# Altium footprint library Andy_Parts.PcbLib: 121 footprints (part 5 of 8)
Each footprint in its own frame and in the unit in brackets; x right, y up, seen from the top. Pads: shape width x height; smd on the part's side, far side on the other; paste and mask are expansions set on the pad; w line width, h text height; cw(c..) or ccw(c..) is an arc to the next point about the centre after c.
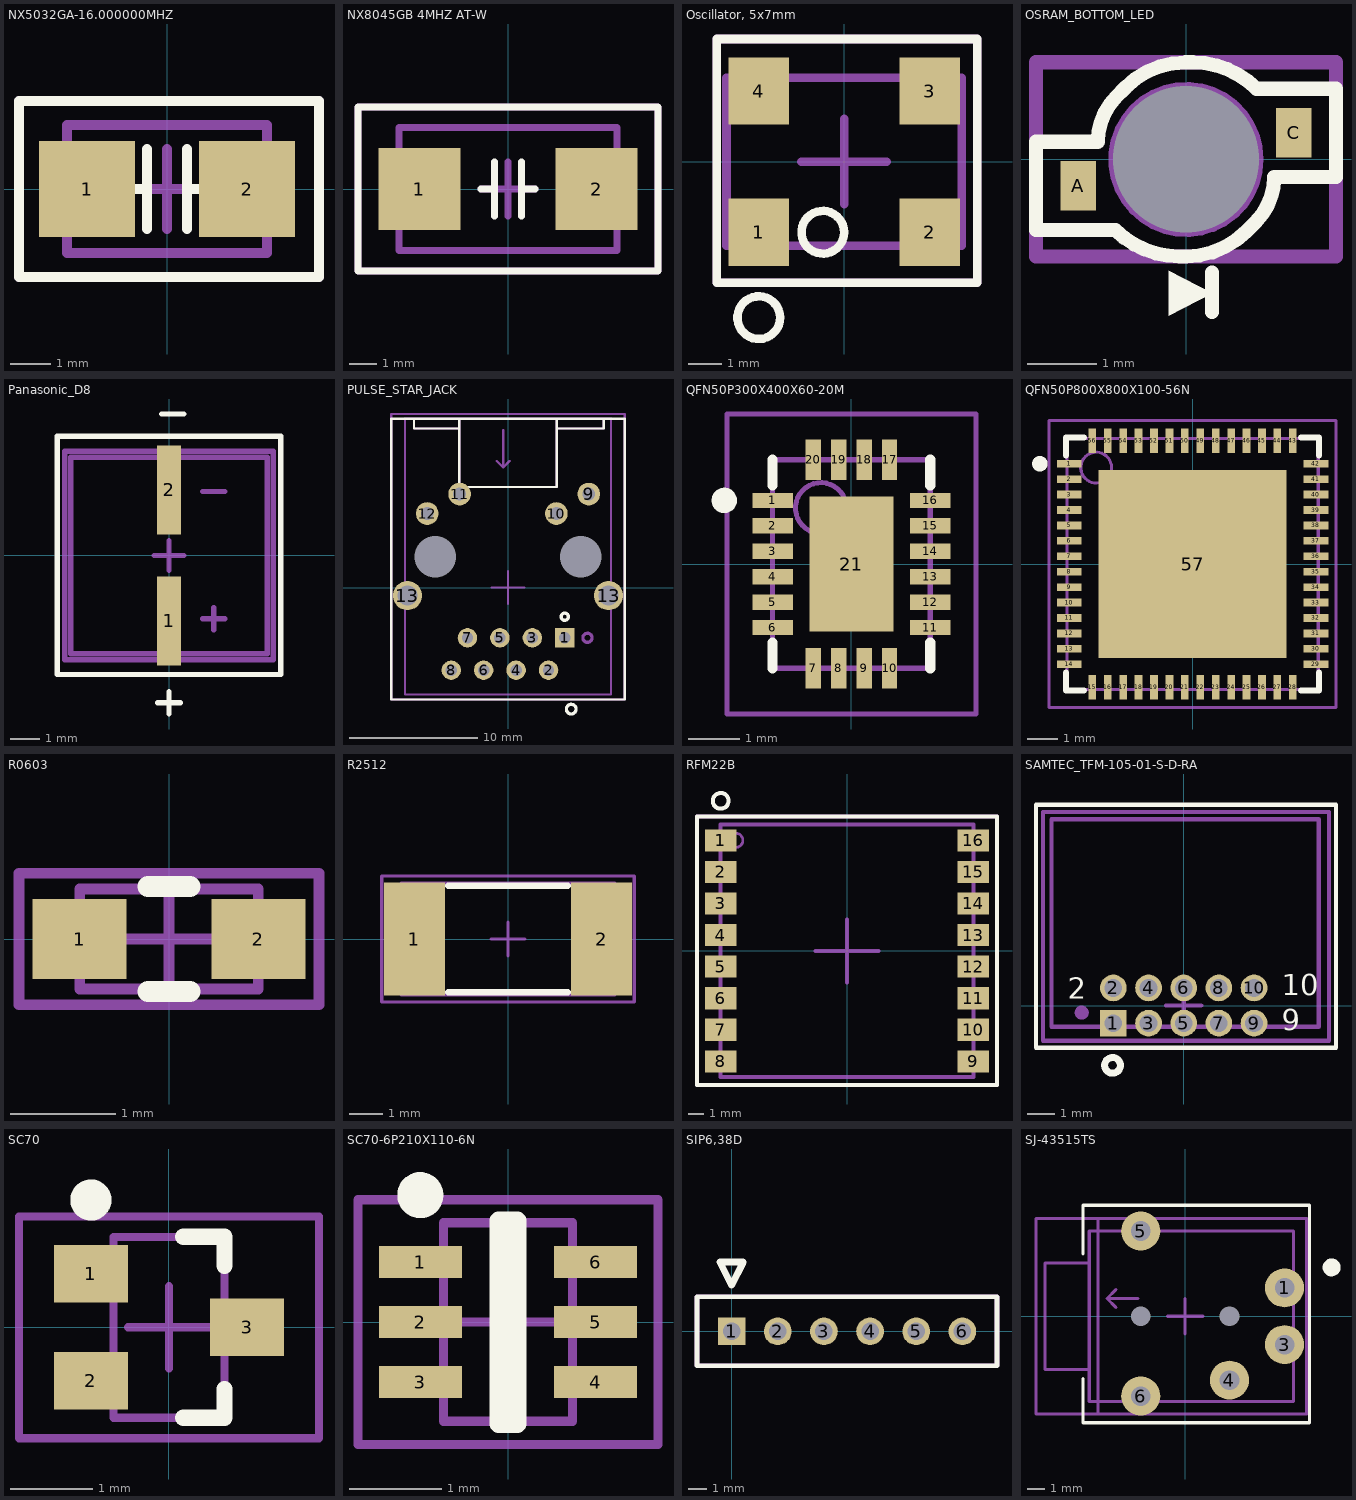
[diagram p4: the footprints below, top view; thin cyan lines are the x and y axes]

## NX5032GA-16.000000MHZ [mm] "NDK NX5032GA series crystal footprint"
height 1.3
pads (2):
  rect 2.4x2.4 smd: 1(-2,0) 2(2,0)
Top Overlay:
  lines w0.254: -1,0 -0.5,0 ; -0.5,-1 -0.5,1 ; 0.5,-1 0.5,1 ; 0.5,0 1,0 ; -3.7,-2.2 3.8,-2.2 3.8,2.2 -3.7,2.2 -3.7,-2.2
Mechanical 1:
  text ".Designator" at -0.525,-0.175 h1.5
Mechanical 13:
  lines w0.254: -2.5,-1.6 -2.5,1.6 2.5,1.6 2.5,-1.6 -2.5,-1.6
Mechanical 15:
  lines w0.254: -1,0 1,0 ; 0,-1 0,1 ; -3.7,-2.2 -3.7,2.2 3.8,2.2 3.8,-2.2 -3.7,-2.2
3D body: height 1.3, standoff 0, extent -2.5,-1.6 2.5,1.6

## NX8045GB 4MHZ AT-W [mm] "NDK NX8045GB series crystal footprint"
height 1.8
pads (2):
  rect 3x3 smd: 1(-3.25,0) 2(3.25,0)
Top Overlay:
  lines w0.254: -1,0 -0.5,0 ; -0.5,-1 -0.5,1 ; 0.5,-1 0.5,1 ; 0.5,0 1,0 ; -5.5,-3 -5.5,3 5.5,3 5.5,-3 -5.5,-3
Mechanical 1:
  text ".Designator" at -1,0 h1.5
Mechanical 13:
  lines w0.254: -4,-2.25 -4,2.25 4,2.25 4,-2.25 -4,-2.25
Mechanical 15:
  lines w0.254: -1,0 1,0 ; 0,-1 0,1 ; -5.5,-3 5.5,-3 5.5,3 -5.5,3 -5.5,-3
3D body: height 1.8, standoff 0, extent -4,-2.25 4,2.25

## Oscillator, 5x7mm [mm] "Citizen 5x7mm oscillator footprint"
height 1.6
pads (4):
  rect 1.8x2 smd: 1(-2.54,-2.1) 2(2.54,-2.1) 3(2.54,2.1) 4(-2.54,2.1)
Top Overlay:
  circle w0.254: c-0.635,-2.1 r0.635
  circle w0.254: c-2.54,-4.64 r0.635
  lines w0.254: -3.79,-3.6 -3.79,-3.1 -3.79,3.65 -3.29,3.65 3.96,3.65 3.96,-1.85 3.96,-3.6 3.71,-3.6 -3.79,-3.6
Mechanical 1:
  text ".Designator" at -2.11,-0.227 h0.64
Mechanical 13:
  lines w0.254: -3.5,-2.5 -3.5,2.5 3.5,2.5 3.5,-2.5 -3.5,-2.5
Mechanical 15:
  lines w0.254: -1.27,0 0,0 ; 0,-1.27 0,0 ; 0,1.27 0,0 ; 1.27,0 0,0 ; -3.79,-3.6 3.71,-3.6 3.96,-3.6 3.96,-1.85 3.96,3.65 -3.29,3.65 -3.79,3.65 -3.79,-3.1 -3.79,-3.6
3D body: height 1.6, standoff 0, extent -3.5,-2.5 3.5,2.5

## OSRAM_BOTTOM_LED [mil] "Bottom Mount LED"
height 26
pads (3):
  rect 20x28 smd: A(-61,-15) C(61,15)
  round 0 hole 83 unplated paste+0 mask+0: Hole(0,0)
Top Overlay:
  region: 14.81,-75.8 -9.8,-88.6 -9.8,-63.01
  lines w7.87: 14.81,-86.63 14.81,-63.99
  lines w8: -85,-40 -85,-35 -85,10 -80,10 -50,10 cw(c-13.79,10) -39.39,35.61 -35,40 -34.14,40.86 cw(c0,6.72) 0,55 3.79,55 cw(c3.79,3.79) 40,40 80,40 85,40 85,35 85,-10 80,-10 50,-10 cw(c13.79,-10) 39.39,-35.61 35,-40 34.14,-40.86 cw(c0,-6.72) 0,-55 -3.79,-55 cw(c-3.79,-3.79) -40,-40 -80,-40 -85,-40
Mechanical 1:
  text ".Designator" at -38.78,-5 h25
Mechanical 13:
  circle w8: c0,0 r40
Mechanical 15:
  lines w8: -85,10 -85,-55 ; -25,0 0,0 ; 0,-25 0,0 ; 0,25 0,0 ; 25,0 0,0 ; -85,-55 35,-55 85,-55 85,40 85,55 -55,55 -85,55 -85,-55
3D body: height 0, standoff -26, extent -40.35,-40.35 40.35,40.35
3D body: height 5, standoff 0, extent -70,-30.12 -28.3,0.23
3D body: height 5, standoff 0, extent 28.3,-0.23 70,30.12

## Panasonic_D8 [mm] "Panasonic D8 size code electrolytic capacitor"
height 7.7
pads (2):
  rect 0.8x3 smd: 1(0,-2.2) 2(0,2.2)
Top Overlay:
  lines w0.178: -0.375,-4.95 0.375,-4.95 ; -0.25,4.75 0.5,4.75 ; 0,-5.325 0,-4.575 ; -3.75,-4 3.75,-4 3.75,-2.75 3.75,4 -2.75,4 -3.75,4 -3.75,-4
Mechanical 1:
  text ".Designator" at -1.5,-0.5 h1.27
Mechanical 13:
  lines w0.178: 1.125,-2.125 1.875,-2.125 ; 1.125,2.15 1.875,2.15 ; 1.5,-2.5 1.5,-1.75 ; -3.3,-3.3 3.3,-3.3 3.3,3.3 -3.3,3.3 -3.3,-3.3
Mechanical 15:
  lines w0.178: -0.5,0 0.5,0 ; 0,-0.5 0,0.5 ; -3.5,-3.5 -3.5,3.5 3.5,3.5 3.5,-3.5 -3.5,-3.5
3D body: height 7.7, standoff 0.3, extent -3.125,-3.144 3.15,3.144
3D body: height 0.3, standoff 0, extent -3.3,-3.3 3.3,3.3

## PULSE_STAR_JACK [mil] "Magjack RJ-45 w/ integrated magnetics and LEDs, 10 base T"
height 598.82
pads (16):
  rect 59.06x59.06 hole 35.04: 1(175,-155)
  round 60 hole 35.04: 2(125,-255) 3(75,-155) 4(25,-255) 5(-25,-155) 6(-75,-255) 7(-125,-155) 8(-175,-255)
  round 70 hole 40: 9(249,288) 10(149,228) 11(-149,288) 12(-249,228)
  round 90 hole 62: 13(-310,-25) 13(310,-25)
  round 0 hole 128 unplated paste+0 mask+0: HOLE(-225,95) HOLE(225,95)
Top Overlay:
  circle w10: c175,-90 r11.18
  circle w10: c195,-375 r15
  lines w7: -290,520 -290,490 -220,490 -150,490 ; -150,520 -150,490 ; 150,520 150,490 ; 295,520 295,490 185,490 150,490 ; -150,490 -150,310 75,310 150,310 150,490 ; -360,-345 360,-345 360,520 -110,520 -360,520 -360,-345
Mechanical 1:
  lines w7: -290,520 -290,490 -220,490 -150,490 ; -150,520 -150,490 ; -35,390 -15,370 ; -15,485 -15,370 ; 5,390 -15,370 ; 150,520 150,490 ; 295,520 295,490 185,490 150,490 ; -150,490 -150,310 75,310 150,310 150,490
  text "Cable" at 65,490 h30
  text ".Designator" at -70,75 h45
Mechanical 13:
  circle w10: c245,-155 r14.14
  lines w7: -317.5,-330 -317.5,40 -317.5,520 317.5,520 317.5,-330 -317.5,-330
Mechanical 15:
  lines w7: -50,0 0,0 ; 0,-50 0,0 ; 0,50 0,0 ; 50,0 0,0 ; -360,-345 -360,535 -110,535 360,535 360,-345 -360,-345
3D body: height 599, standoff 0, extent -317.5,-330 317.5,520

## QFN50P300X400X60-20M [mm] "QFN, 20-Leads, Body 4.1x3.1mm (max), Pitch 0.50mm, IPC Low Density"
height 0.6
pads (21):
  rect 0.8x0.3 smd: 1(-1.55,1.25) 2(-1.55,0.75) 3(-1.55,0.25) 4(-1.55,-0.25) 5(-1.55,-0.75) 6(-1.55,-1.25) 11(1.55,-1.25) 12(1.55,-0.75) 13(1.55,-0.25) 14(1.55,0.25) 15(1.55,0.75) 16(1.55,1.25)
  rect 0.3x0.8 smd: 7(-0.75,-2.05) 8(-0.25,-2.05) 9(0.25,-2.05) 10(0.75,-2.05) 17(0.75,2.05) 18(0.25,2.05) 19(-0.25,2.05) 20(-0.75,2.05)
  rect 1.65x2.65 smd: 21(0,0)
Top Overlay:
  circle w0.25: c-2.5,1.25 r0.125
  lines w0.2: -1.55,-2.05 -1.55,-1.55 ; -1.55,1.55 -1.55,2.05 ; 1.55,-2.05 1.55,-1.55 ; 1.55,1.55 1.55,2.05
Mechanical 1:
  text ".Designator" at -1,-0.25 h0.75
Mechanical 13:
  circle w0.1: c-0.6,1.1 r0.5
  lines w0.1: -1.55,-2.05 -1.55,2.05 1.55,2.05 1.55,-2.05 -1.55,-2.05
Mechanical 15:
  lines w0.1: -0.5,0 0.5,0 ; 0,-0.5 0,0.5 ; -2.45,-2.95 -2.45,2.95 2.45,2.95 2.45,-2.95 -2.45,-2.95
3D body: height 0.6, standoff 0.05, extent -1.55,-2.05 1.55,2.05

## QFN50P800X800X100-56N [mm] "QFN, 56-Leads, Body 8.1x8.1mm (max), Pitch 0.50mm, IPC Medium Density"
height 1
pads (57):
  rect 0.8x0.25 smd: 1(-4,3.25) 2(-4,2.75) 3(-4,2.25) 4(-4,1.75) 5(-4,1.25) 6(-4,0.75) 7(-4,0.25) 8(-4,-0.25) 9(-4,-0.75) 10(-4,-1.25) 11(-4,-1.75) 12(-4,-2.25) 13(-4,-2.75) 14(-4,-3.25) 29(4,-3.25) 30(4,-2.75) 31(4,-2.25) 32(4,-1.75) 33(4,-1.25) 34(4,-0.75) 35(4,-0.25) 36(4,0.25) 37(4,0.75) 38(4,1.25) 39(4,1.75) 40(4,2.25) 41(4,2.75) 42(4,3.25)
  rect 0.25x0.8 smd: 15(-3.25,-4) 16(-2.75,-4) 17(-2.25,-4) 18(-1.75,-4) 19(-1.25,-4) 20(-0.75,-4) 21(-0.25,-4) 22(0.25,-4) 23(0.75,-4) 24(1.25,-4) 25(1.75,-4) 26(2.25,-4) 27(2.75,-4) 28(3.25,-4) 43(3.25,4) 44(2.75,4) 45(2.25,4) 46(1.75,4) 47(1.25,4) 48(0.75,4) 49(0.25,4) 50(-0.25,4) 51(-0.75,4) 52(-1.25,4) 53(-1.75,4) 54(-2.25,4) 55(-2.75,4) 56(-3.25,4)
  rect 6.1x6.1 smd: 57(0,0)
Top Overlay:
  circle w0.25: c-4.95,3.25 r0.125
  lines w0.2: -4.1,-3.525 -4.1,-4.1 -3.525,-4.1 ; -4.1,3.525 -4.1,4.1 -3.525,4.1 ; 3.525,-4.1 4.1,-4.1 4.1,-3.525 ; 3.525,4.1 4.1,4.1 4.1,3.525
Mechanical 1:
  text ".Designator" at -2,-0.5 h3
Mechanical 13:
  circle w0.1: c-3.125,3.125 r0.5
  lines w0.1: -4.075,-4.075 -4.075,4.075 4.075,4.075 4.075,-4.075 -4.075,-4.075
Mechanical 15:
  lines w0.1: -0.5,0 0.5,0 ; 0,-0.5 0,0.5 ; -4.65,-4.65 -4.65,4.65 4.65,4.65 4.65,-4.65 -4.65,-4.65
3D body: height 1, standoff 0.05, extent -4.075,-4.075 4.075,4.075

## R0603 [mil] "Chip Resistor, 2-Leads, Body 1.7x0.8mm, IPC High Density"
height 23.62
pads (2):
  rect 35x30 smd: 1(-33.46,0) 2(33.46,0)
Top Overlay:
  lines w7.87: -7.87,-19.68 7.87,-19.68 ; -7.87,19.68 7.87,19.68
Mechanical 1:
  text ".Designator" at -50,-10 h25
Mechanical 13:
  lines w3.94: -33.46,-18.7 -33.46,18.7 33.46,18.7 33.46,-18.7 -33.46,-18.7
Mechanical 15:
  lines w3.94: -18.7,0 18.7,0 ; 0,-18.7 0,18.7 ; -56.1,-24.61 56.1,-24.61 56.1,24.61 -56.1,24.61 -56.1,-24.61
3D body: height 23.62, standoff 0, extent -33.46,-18.7 33.46,18.7

## R2512 [mil] "Chip Resistor, 2-Leads, Body 6.4x3.2mm, IPC High Density"
height 27.56
pads (2):
  rect 72x133.86 smd: 1(-111,0) 2(111,0)
Top Overlay:
  lines w7.87: -70.87,-62.99 70.87,-62.99 ; -70.87,62.99 70.87,62.99
Mechanical 1:
  text ".Designator" at -115,-10 h25
Mechanical 13:
  lines w3.94: -126.97,-65.94 126.97,-65.94 126.97,65.94 -126.97,65.94 -126.97,-65.94
Mechanical 15:
  lines w3.94: -19.68,0 19.69,0 ; 0,-19.68 0,19.69 ; -149.61,-74.8 149.61,-74.8 149.61,74.8 -149.61,74.8 -149.61,-74.8
3D body: height 27.95, standoff 0, extent -126.97,-65.94 126.97,65.94

## RFM22B [mm] "Footprint for RFM22B"
height 4.9
pads (16):
  rect 2x1.4 smd: 1(-8,7) 2(-8,5) 3(-8,3) 4(-8,1) 5(-8,-1) 6(-8,-3) 7(-8,-5) 8(-8,-7) 9(8,-7) 10(8,-5) 11(8,-3) 12(8,-1) 13(8,1) 14(8,3) 15(8,5) 16(8,7)
Top Overlay:
  circle w0.254: c-8,9.5 r0.5
  lines w0.254: -9.5,-8.5 -4.5,-8.5 9.5,-8.5 9.5,-6.5 9.5,8.5 -9.5,8.5 -9.5,-8.5
Mechanical 1:
  text ".Designator" at -1.5,-0.5 h2.54
Mechanical 13:
  circle w0.178: c-7.047,7 r0.447
  lines w0.254: -8,-8 -8,8 8,8 8,-8 -8,-8
Mechanical 15:
  lines w0.254: -2,0 2,0 ; 0,-2 0,2 ; -9.5,-8.5 -9.5,8.5 9.5,8.5 9.5,-6.5 9.5,-8.5 -4.5,-8.5 -9.5,-8.5
3D body: height 1.9, standoff 1, extent -3.6,-5.6 -0.4,-2.4
3D body: height 1.9, standoff 1, extent 3.6,-2.4 6.8,2.6
3D body: height 1, standoff 0, extent -8,-8 8,8

## SAMTEC_TFM-105-01-S-D-RA [mil] "10 pin R/A 0.050\" pin pitch male shrouded header"
height 225
pads (10):
  rect 38x38 hole 25: 1(-100,-25)
  round 38 hole 25: 2(-100,25) 3(-50,-25) 4(-50,25) 5(0,-25) 6(0,25) 7(50,-25) 8(50,25) 9(100,-25) 10(100,25)
Top Overlay:
  circle w10: c-101.18,-85 r11.18
  lines w6: -210,-60 -210,275 -210,285.43 -206.69,285.43 216.54,285.43 216.54,275 216.54,-60 -210,-60
  text "9" at 139.09,-35 h30
  text "10" at 139.09,15 h30
  text "2" at -165,10 h30
Mechanical 1:
  text ".Designator" at -39.37,0 h45
Mechanical 13:
  circle w10: c-145,-10 r5
  lines w6: -188.03,-30 -188.03,265 191.97,265 191.97,-30 -188.03,-30
Mechanical 15:
  lines w6: -25,0 0,0 ; 0,-25 0,0 ; 0,25 0,0 ; 25,0 0,0 ; -200,-50 206.69,-50 206.69,275 -200,275 -200,-50
3D body: height 230.61, standoff -69.39, extent -188.03,-29.53 191.97,265.47

## SC70 [mm] "SOT23, 3-Leads, Body 2.2x2.4mm (max), Pitch 0.65mm"
height 1
pads (3):
  rect 0.9x0.7 smd: 1(-0.95,0.65) 2(-0.95,-0.65) 3(0.95,0)
Top Overlay:
  circle w0.25: c-0.95,1.55 r0.125
  lines w0.2: 0.175,-1.1 0.675,-1.1 0.675,-0.75 ; 0.175,1.1 0.675,1.1 0.675,0.75
Mechanical 1:
  text ".Designator" at 0.2,-1.1 h0.64
Mechanical 13:
  lines w0.1: -0.675,-1.1 0.675,-1.1 0.675,1.1 -0.675,1.1 -0.675,-1.1
Mechanical 15:
  lines w0.1: -0.5,0 0.5,0 ; 0,-0.5 0,0.5 ; -1.825,-1.35 1.825,-1.35 1.825,1.35 -1.825,1.35 -1.825,-1.35
3D body: height 1, standoff 0.1, extent -0.675,-1.1 0.675,1.1
3D body: height 0.9, standoff 0, extent -1.05,-1.05 1.05,1.05

## SC70-6P210X110-6N [mm] "SC-70, 6-Leads, Body 2.2x2.4mm (max), Pitch 0.65mm, IPC Medium Density"
height 1.1
pads (6):
  rect 0.9x0.35 smd: 1(-0.95,0.65) 2(-0.95,0) 3(-0.95,-0.65) 4(0.95,-0.65) 5(0.95,0) 6(0.95,0.65)
Top Overlay:
  circle w0.25: c-0.95,1.375 r0.125
  lines w0.2: -0.1,-1.1 -0.1,1.1 0.1,1.1 0.1,-1.1 -0.1,-1.1
Mechanical 1:
  text ".Designator" at -0.4,0.9 h0.75
Mechanical 13:
  lines w0.1: -0.7,-1.075 0.7,-1.075 0.7,1.075 -0.7,1.075 -0.7,-1.075
Mechanical 15:
  lines w0.1: -0.5,0 0.5,0 ; 0,-0.5 0,0.5 ; -1.625,-1.325 1.625,-1.325 1.625,1.325 -1.625,1.325 -1.625,-1.325
3D body: height 1.1, standoff 0.05, extent -0.7,-1.075 0.7,1.075

## SIP6,38D [mil]
pads (6):
  rect 60x60 hole 38: 1(0,0)
  round 60 hole 38: 2(100,0) 3(200,0) 4(300,0) 5(400,0) 6(500,0)
Top Overlay:
  lines w10: -75,-75 575,-75 575,75 -75,75 -75,-75
  lines w15: -25,150 0,100 25,150 -25,150
Mechanical 13:
  lines w10: -75,-75 575,-75 575,75 -75,75 -75,-75 ; -25,150 0,100 25,150 -25,150

## SJ-43515TS [mm] "CUI 3.5mm 4 position audio jack"
height 5.5
pads (7):
  round 2.2 hole 1.1: 1(5.6,1.6) 3(5.6,-1.6) 4(2.5,-3.6) 5(-2.5,4.8) 6(-2.5,-4.5)
  round 0 hole 1.1 unplated: MNT(-2.5,0) MNT(2.5,0)
Top Overlay:
  circle w0.508: c8.25,2.75 r0.25
  lines w0.178: -5.75,-3.5 -5.75,-6 -2,-6 7,-6 7,-0.5 7,6.25 -3,6.25 -5.75,6.25 -5.75,3.5
Mechanical 1:
  text ".Designator" at -1.65,-1.75 h1.27
Mechanical 13:
  lines w0.178: -7.9,-3 -7.9,3 -5.4,3 -5.4,-3 -7.9,-3 ; -5.4,-4.8 -5.4,4.8 6.1,4.8 6.1,1.4 6.1,-4.8 -5.4,-4.8
Mechanical 15:
  lines w0.178: -4.9,-5.5 -4.9,5.5 ; -3.9,0.5 -4.4,1 ; -3.9,1.5 -4.4,1 ; -2.65,1 -4.4,1 ; -1,0 1,0 ; 0,-1 0,1 ; -4.4,1 -4.4,1 ; -8.4,-5.5 -5.4,-5.5 6.85,-5.5 6.85,3.25 6.85,5.5 -2.15,5.5 -8.4,5.5 -8.4,-0.5 -8.4,-5.5
  text "Board Edge" at -3.9,2 h1.27
3D body: height 5, standoff 0, extent -5.4,-4.8 6.1,4.8
3D body: height 5.48, standoff -0.5, extent -7.9,-2.994 -4.9,2.994